# EAGLE library part ENCODER_POLOLU (library patrick_custom)
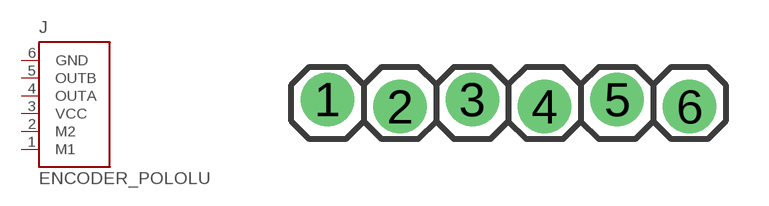
[diagram p11: symbol with the pads of 1XM06-LOCK; footprint 1XM06-LOCK]

Designator prefix J

## ENCODER_POLOLU  [1XM06-LOCK]
1  M1
2  M2
3  VCC
4  OUTA
5  OUTB
6  GND

## Footprint 1XM06-LOCK (pad centres in mm)
drill 1.016 pad 1.88: 1 0,0; 2 2.54,-0.254; 3 5.08,0; 4 7.62,-0.254; 5 10.16,0; 6 12.7,-0.254